# EAGLE library part HEADER-1X10 (library old-4ms-main-parts)
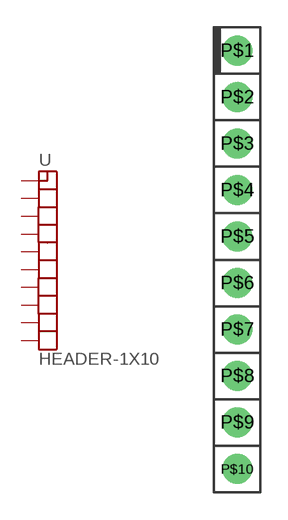
[diagram p18: symbol with the pads of HEADER-1X10-TH; footprint HEADER-1X10-TH]

Designator prefix -

## HEADER-1X10-TH  [HEADER-1X10-TH]
P$1  P$1
P$2  P$2
P$3  P$3
P$4  P$4
P$5  P$5
P$6  P$6
P$7  P$7
P$8  P$8
P$9  P$9
P$10  P$10

## Footprint HEADER-1X10-TH (pad centres in mm)
drill 0.9 pad 1.651: P$1 1.27,10.16; P$2 1.27,7.62; P$3 1.27,5.08; P$4 1.27,2.54; P$5 1.27,0; P$6 1.27,-2.54; P$7 1.27,-5.08; P$8 1.27,-7.62; P$9 1.27,-10.16; P$10 1.27,-12.7